# Altium schematic symbol library HassanLib.SchLib: 63 symbols
Pins are listed as number, name and electrical type; pins without a type are passive.

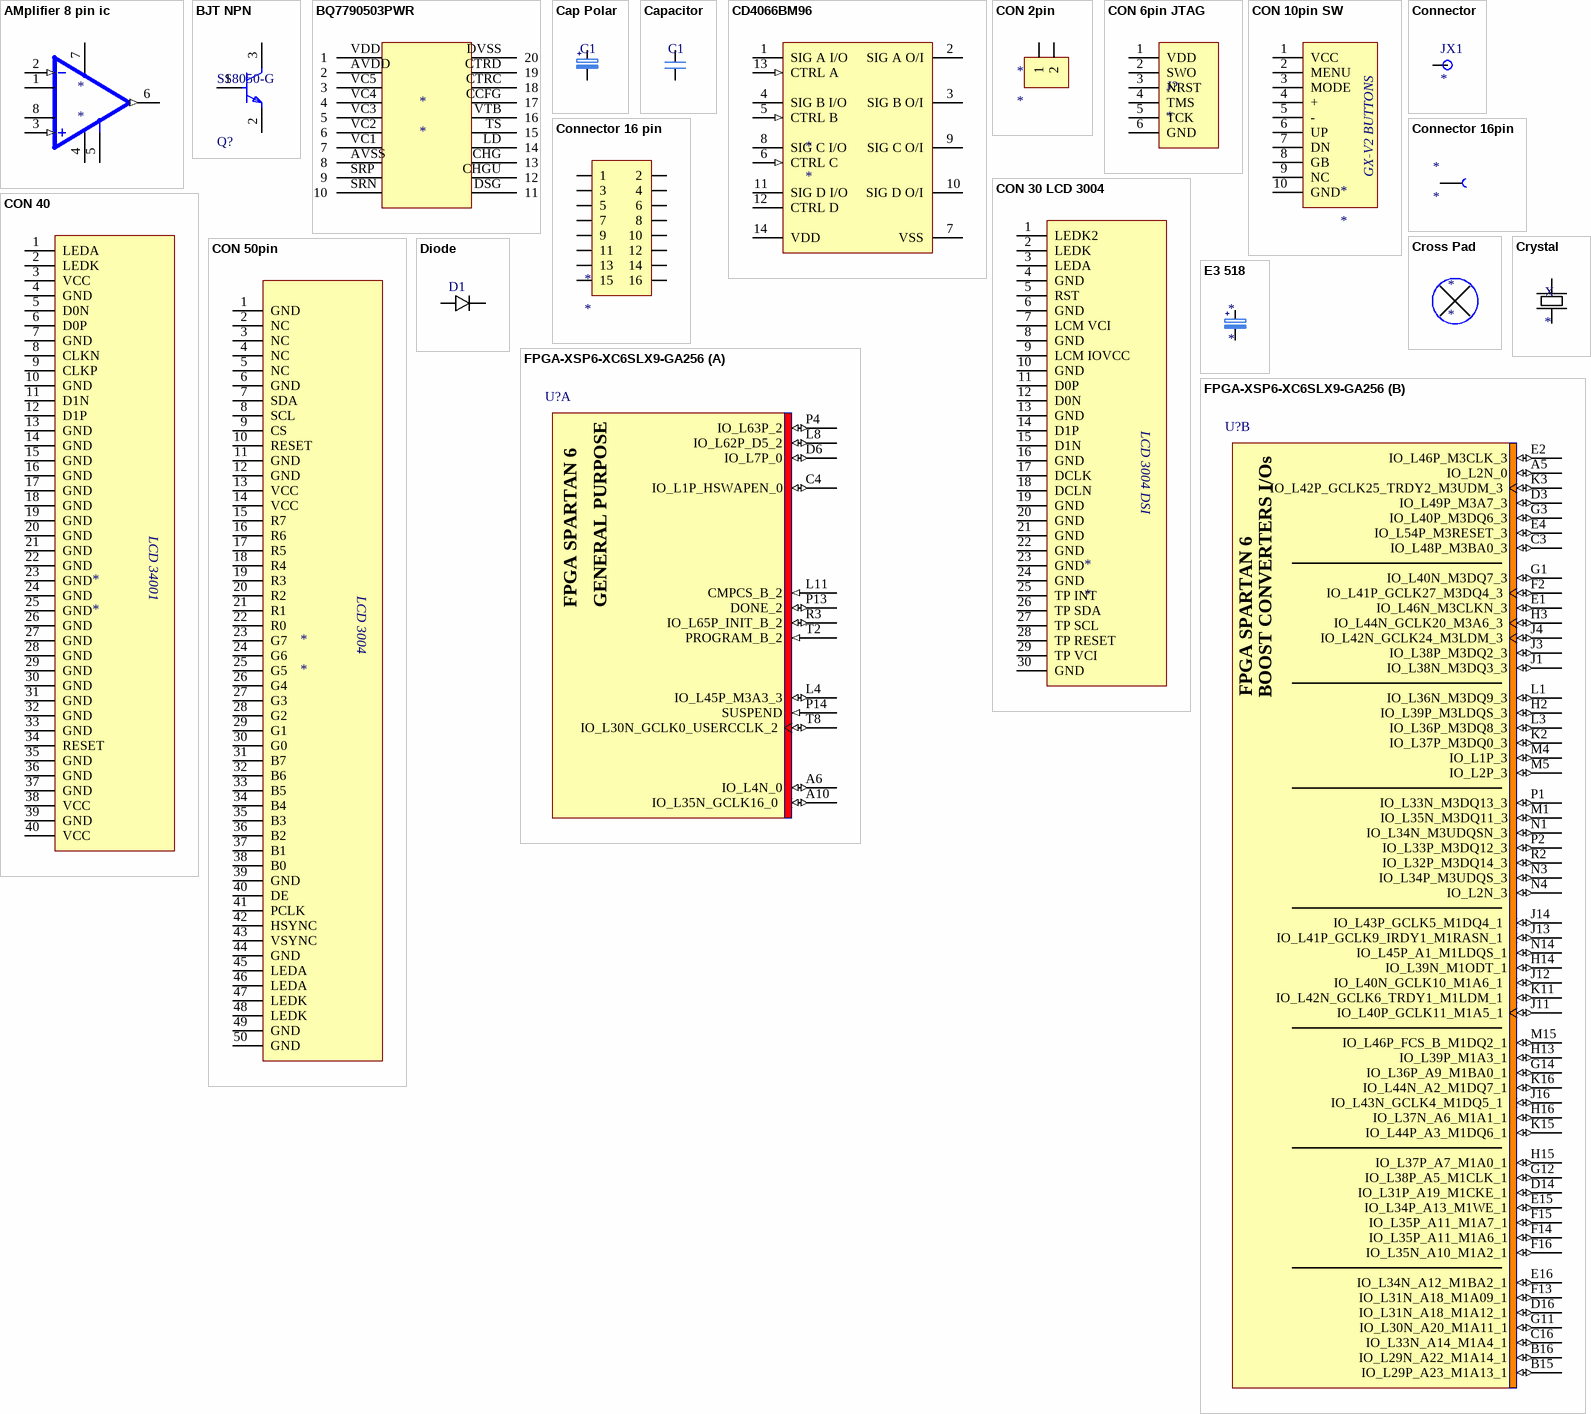
[diagram p0: symbols AMplifier 8 pin ic to FPGA-XSP6-XC6SLX9-GA256]

## AMplifier 8 pin ic
designator *
footprint Amplifier IC 8 PINS
pins: 1 RG_1, 2 -IN (in), 3 +IN (in), 4 -VS (power), 5 REF (power), 6 OUTPUT (out), 7 +VS (power), 8 RG_8

## BJT NPN
designator Q?, comment SS8050-G
NPN TRANSISTOR 1.5A 40V SOT-23 R; Transition Frequency: 100MHz; Max Breakdown Voltage: 25V; Collector Emitter Voltage (VCEO): 400mV; Max Power Dissipation: 300mW; Max Collector Current: 1.5A; Case/Package: TO-236-3; Packaging: Tape and Reel; RoHS Compliant: Yes; Mount: Surface Mount; Collector Emitter Breakdown Voltage: 25V
footprint FP-SS8050-G-IPC_B
footprint FP-SS8050-G-IPC_C
footprint FP-SS8050-G-IPC_A
footprint FP-SS8050-G-MFG
footprint SOT23 (SOT23, 3-Leads, Body 3.12x1.5mm, Pitch 0.95mm)
pins: 1 B, 2 E, 3 C

## BQ7790503PWR
designator *
footprint BQ7790503PWR
pins: AVDD 2, AVSS 8, CCFG 17, CHG 13, CHGU 12, CTRC 18, CTRD 19, DSG 11, DVSS 20, LD 14, SRN 10, SRP 9, TS 15, VC1 7, VC2 6, VC3 5, VC4 4, VC5 3, VDD 1, VTB 16

## Cap Polar
designator C1
footprint C0406 (Aluminum Electrolytic Capacitor, Diameter 4mm, Height 6.1mm, Pitch 3.6mm)
footprint C0606 (Aluminum Electrolytic Capacitor, Diameter 6.3mm, Height 6.1mm, Pitch 5.4mm)
footprint C0810 (Aluminum Electrolytic Capacitor, Diameter 8mm, Height 10.8mm, Pitch 6.5mm)
footprint C1010 (Aluminum Electrolytic Capacitor, Diameter 10mm, Height 10.8mm, Pitch 8mm)
footprint CPOL CASEC 6032 2413
footprint CPOL CASED 7343 2917
footprint CPOL CASEB 3528 1408
footprint CPOL-12.5mm36mm
footprint E3,5-18 (Rotary12)
pins: 1, 2
text: +

## Capacitor
designator C1
footprint 0603
footprint 0402 (Chip Capacitor, 2-Leads, Body 1.00x0.50mm, IPC High Density)
footprint 0805
footprint 1206 (Chip Capacitor, 2-Leads, Body 3.20x1.60mm, IPC High Density)
pins: 1, 2

## CD4066BM96
designator *
footprint CD4066BM96
pins: 1 SIG A I/O, 2 SIG A O/I, 3 SIG B O/I, 4 SIG B I/O, 5 CTRL B (in), 6 CTRL C (in), 7 VSS (power), 8 SIG C I/O, 9 SIG C O/I, 10 SIG D O/I, 11 SIG D I/O, 12 CTRL D, 13 CTRL A (in), 14 VDD (power)

## CON 2pin
designator *
footprint CON 2pin
pins: 1, 2

## CON 6pin JTAG
designator J?
footprint Header 1x06 (Pin Header, pitch 2.54 mm, THT, Vertical, single row, 6p)
pins: 1 VDD, 2 SWO, 3 NRST, 4 TMS, 5 TCK, 6 GND

## CON 10pin SW
designator *
footprint CON FPC 1mm 10p (FPC Connector, 10-Leads, Right Angle, Pitch 1.0 mm, Mated Height 3.0 mm, SMT)
pins: 1 VCC, 2 MENU, 3 MODE, 4 +, 5 -, 6 UP, 7 DN, 8 GB, 9 NC, 10 GND
text: GX-V2 BUTTONS

## CON 30 LCD 3004
designator *
footprint CON FPC 0.5mm 30p (FPC Connector, 30-Leads, Right Angle, Pitch 0.5 mm, Mated Height 2.0 mm, SMT)
pins: 1 LEDK2, 2 LEDK, 3 LEDA, 4 GND, 5 RST, 6 GND, 7 LCM VCI, 8 GND, 9 LCM IOVCC, 10 GND, 11 D0P, 12 D0N, 13 GND, 14 D1P, 15 D1N, 16 GND, 17 DCLK, 18 DCLN, 19 GND, 20 GND, 21 GND, 22 GND, 23 GND, 24 GND, 25 TP INT, 26 TP SDA, 27 TP SCL, 28 TP RESET, 29 TP VCI, 30 GND
text: LCD 3004 DSI

## CON 40
designator *
pins: 1 LEDA, 2 LEDK, 3 VCC, 4 GND, 5 D0N, 6 D0P, 7 GND, 8 CLKN, 9 CLKP, 10 GND, 11 D1N, 12 D1P, 13 GND, 14 GND, 15 GND, 16 GND, 17 GND, 18 GND, 19 GND, 20 GND, 21 GND, 22 GND, 23 GND, 24 GND, 25 GND, 26 GND, 27 GND, 28 GND, 29 GND, 30 GND, 31 GND, 32 GND, 33 GND, 34 RESET, 35 GND, 36 GND, 37 GND, 38 VCC, 39 GND, 40 VCC
text: LCD 34001

## CON 50pin
designator *
pins: 1 GND, 2 NC, 3 NC, 4 NC, 5 NC, 6 GND, 7 SDA, 8 SCL, 9 CS, 10 RESET, 11 GND, 12 GND, 13 VCC, 14 VCC, 15 R7, 16 R6, 17 R5, 18 R4, 19 R3, 20 R2, 21 R1, 22 R0, 23 G7, 24 G6, 25 G5, 26 G4, 27 G3, 28 G2, 29 G1, 30 G0, 31 B7, 32 B6, 33 B5, 34 B4, 35 B3, 36 B2, 37 B1, 38 B0, 39 GND, 40 DE, 41 PCLK, 42 HSYNC, 43 VSYNC, 44 GND, 45 LEDA, 46 LEDA, 47 LEDK, 48 LEDK, 49 GND, 50 GND
text: LCD 3004

## Connector
designator JX1
footprint PAD 1.1mm
footprint PAD 1.3mm
footprint Test point pad
pins: 2

## Connector 16 pin
designator *
pins: 2, 3, 4, 5, 6, 7, 8, 9, 10, 11, 12, 13, 14, 15, 16, 98 1

## Connector 16pin
designator *
pins: 1

## Cross Pad
designator *
footprint Cross Pad

## Crystal
designator X
footprint CRYSTAL NX3215SA
footprint CRYSTAL NX3225SA; pin to pad 1>3
footprint CRYSTAL OSCILLATOR CSM-7X-DU
footprint NX3225GB (CRYSTAL)
pins: 1 16, 2 17

## Diode
designator D1
footprint DIODE 4148
footprint DIODE SMA (Molded Diode, 2-Leads, Body 4.5x2.79mm)
footprint DIODE SMC
footprint DIODE SOD123
pins: 1 A, 2 K

## E3 518
designator *
footprint E3,5-18 (Rotary12)
pins: 1, 2
text: +

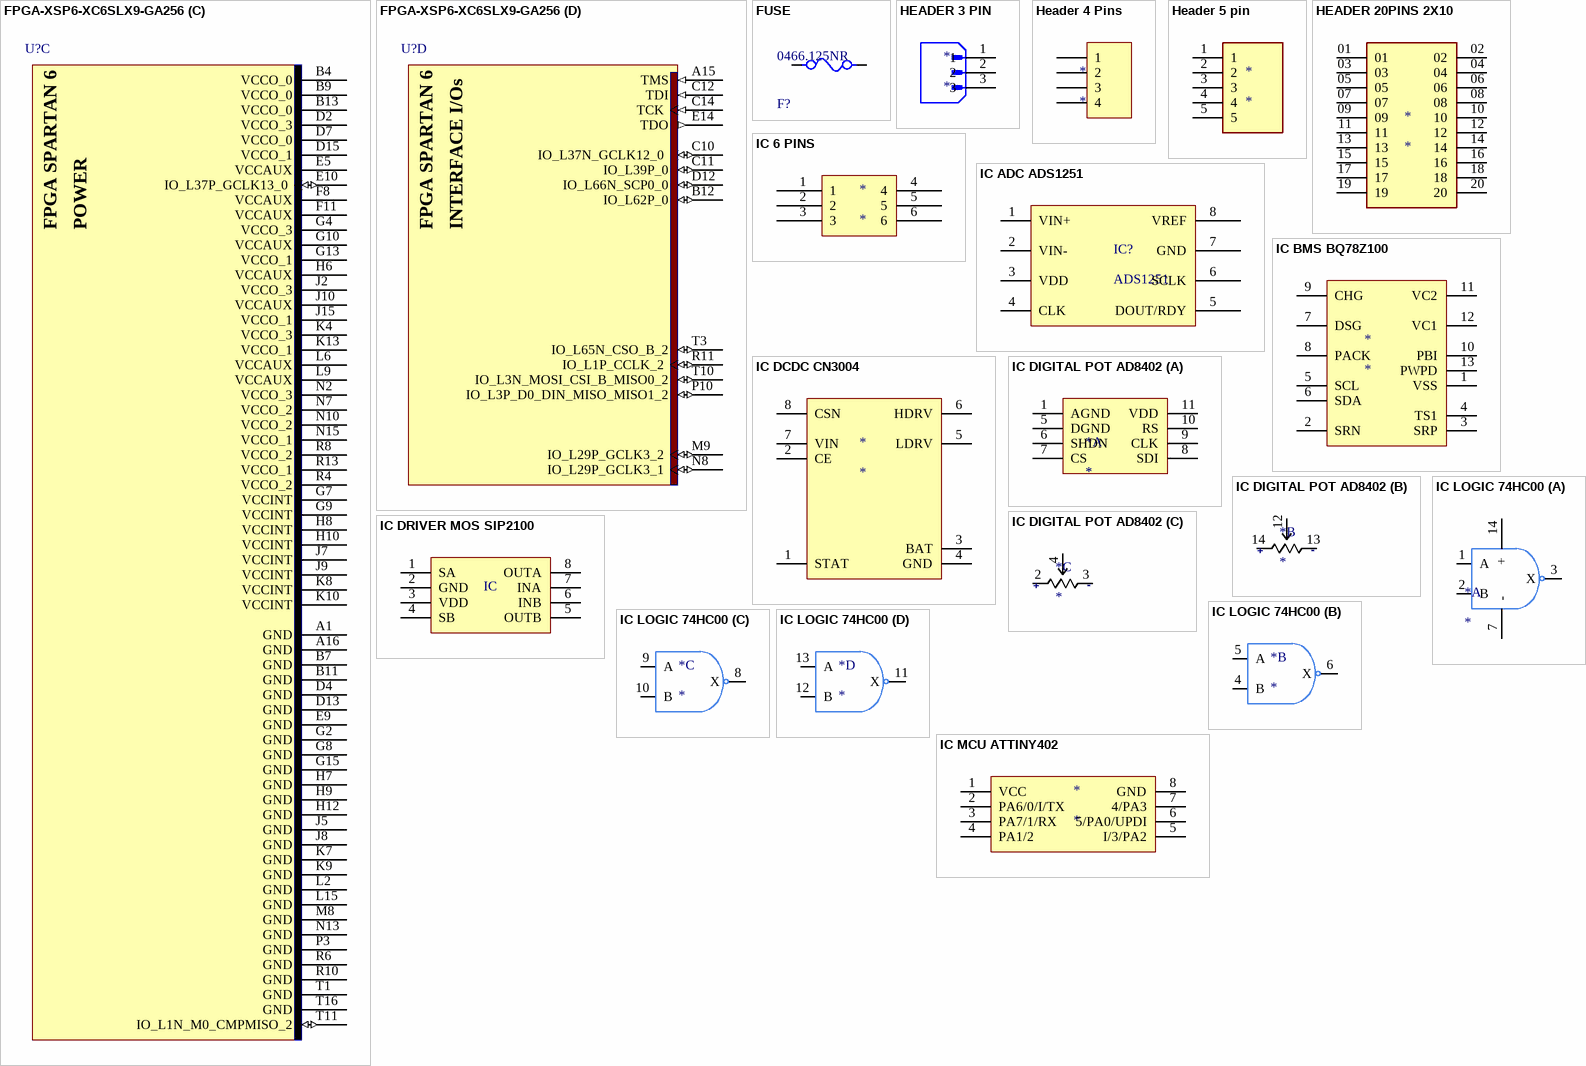
[diagram p1: symbols FPGA-XSP6-XC6SLX9-GA256 to IC MCU ATTINY402]

## FPGA-XSP6-XC6SLX9-GA256
designator U?
part A pins: A6 IO_L4N_0 (io), A10 IO_L35N_GCLK16_0 (io), C4 IO_L1P_HSWAPEN_0 (io), D6 IO_L7P_0 (io), L4 IO_L45P_M3A3_3 (io), L8 IO_L62P_D5_2 (io), L11 CMPCS_B_2 (in), P4 IO_L63P_2 (io), P13 DONE_2 (io), P14 SUSPEND (in), R3 IO_L65P_INIT_B_2 (io), T2 PROGRAM_B_2 (in), T8 IO_L30N_GCLK0_USERCCLK_2 (io)
part B pins: A5 IO_L2N_0 (io), B15 IO_L29P_A23_M1A13_1 (io), B16 IO_L29N_A22_M1A14_1 (io), C3 IO_L48P_M3BA0_3 (io), C16 IO_L33N_A14_M1A4_1 (io), D3 IO_L49P_M3A7_3 (io), D14 IO_L31P_A19_M1CKE_1 (io), D16 IO_L31N_A18_M1A12_1 (io), E1 IO_L46N_M3CLKN_3 (io), E2 IO_L46P_M3CLK_3 (io), E4 IO_L54P_M3RESET_3 (io), E15 IO_L34P_A13_M1WE_1 (io), E16 IO_L34N_A12_M1BA2_1 (io), F2 IO_L41P_GCLK27_M3DQ4_3 (io), F13 IO_L31N_A18_M1A09_1 (io), F14 IO_L35P_A11_M1A6_1 (io), F15 IO_L35P_A11_M1A7_1 (io), F16 IO_L35N_A10_M1A2_1 (io), G1 IO_L40N_M3DQ7_3 (io), G3 IO_L40P_M3DQ6_3 (io), G11 IO_L30N_A20_M1A11_1 (io), G12 IO_L38P_A5_M1CLK_1 (io), G14 IO_L36P_A9_M1BA0_1 (io), H2 IO_L39P_M3LDQS_3 (io), H3 IO_L44N_GCLK20_M3A6_3 (io), H13 IO_L39P_M1A3_1 (io), H14 IO_L39N_M1ODT_1 (io), H15 IO_L37P_A7_M1A0_1 (io), H16 IO_L37N_A6_M1A1_1 (io), J1 IO_L38N_M3DQ3_3 (io), J3 IO_L38P_M3DQ2_3 (io), J4 IO_L42N_GCLK24_M3LDM_3 (io), J11 IO_L40P_GCLK11_M1A5_1 (io), J12 IO_L40N_GCLK10_M1A6_1 (io), J13 IO_L41P_GCLK9_IRDY1_M1RASN_1 (io), J14 IO_L43P_GCLK5_M1DQ4_1 (io), J16 IO_L43N_GCLK4_M1DQ5_1 (io), K2 IO_L37P_M3DQ0_3 (io), K3 IO_L42P_GCLK25_TRDY2_M3UDM_3 (io), K11 IO_L42N_GCLK6_TRDY1_M1LDM_1 (io), K15 IO_L44P_A3_M1DQ6_1 (io), K16 IO_L44N_A2_M1DQ7_1 (io), L1 IO_L36N_M3DQ9_3 (io), L3 IO_L36P_M3DQ8_3 (io), M1 IO_L35N_M3DQ11_3 (io), M4 IO_L1P_3 (io), M5 IO_L2P_3 (io), M15 IO_L46P_FCS_B_M1DQ2_1 (io), N1 IO_L34N_M3UDQSN_3 (io), N3 IO_L34P_M3UDQS_3 (io), N4 IO_L2N_3 (io), N14 IO_L45P_A1_M1LDQS_1 (io), P1 IO_L33N_M3DQ13_3 (io), P2 IO_L33P_M3DQ12_3 (io), R2 IO_L32P_M3DQ14_3 (io)
part C pins: A1 GND (power), A16 GND (power), B4 VCCO_0 (power), B7 GND (power), B9 VCCO_0 (power), B11 GND (power), B13 VCCO_0 (power), D2 VCCO_3 (power), D4 GND (power), D7 VCCO_0 (power), D13 GND (power), D15 VCCO_1 (power), E5 VCCAUX (power), E9 GND (power), E10 IO_L37P_GCLK13_0 (io), F8 VCCAUX (power), F11 VCCAUX (power), G2 GND (power), G4 VCCO_3 (power), G7 VCCINT (power), G8 GND (power), G9 VCCINT (power), G10 VCCAUX (power), G13 VCCO_1 (power), G15 GND (power), H6 VCCAUX (power), H7 GND (power), H8 VCCINT (power), H9 GND (power), H10 VCCINT (power), H12 GND (power), J2 VCCO_3 (power), J5 GND (power), J7 VCCINT (power), J8 GND (power), J9 VCCINT (power), J10 VCCAUX (power), J15 VCCO_1 (power), K4 VCCO_3 (power), K7 GND (power), K8 VCCINT (power), K9 GND (power), K10 VCCINT (power), K13 VCCO_1 (power), L2 GND (power), L6 VCCAUX (power), L9 VCCAUX (power), L15 GND (power), M8 GND (power), N2 VCCO_3 (power), N7 VCCO_2 (power), N10 VCCO_2 (power), N13 GND (power), N15 VCCO_1 (power), P3 GND (power), R4 VCCO_2 (power), R6 GND (power), R8 VCCO_2 (power), R10 GND (power), R13 VCCO_1 (power), T1 GND (power), T11 IO_L1N_M0_CMPMISO_2 (io), T16 GND (power)
part D pins: A15 TMS (in), B12 IO_L62P_0 (io), C10 IO_L37N_GCLK12_0 (io), C11 IO_L39P_0 (io), C12 TDI (in), C14 TCK (in), D12 IO_L66N_SCP0_0 (io), E14 TDO (out), M9 IO_L29P_GCLK3_2 (io), N8 IO_L29P_GCLK3_1 (io), P10 IO_L3P_D0_DIN_MISO_MISO1_2 (io), R11 IO_L1P_CCLK_2 (io), T3 IO_L65N_CSO_B_2 (io), T10 IO_L3N_MOSI_CSI_B_MISO0_2 (io)
part A text: FPGA SPARTAN 6; GENERAL PURPOSE
part B text: FPGA SPARTAN 6; BOOST CONVERTERS I/Os
part C text: FPGA SPARTAN 6; POWER
part D text: FPGA SPARTAN 6; INTERFACE I/Os

## FUSE
designator F?, comment 0466.125NR
FUSE BOARD MNT 125MA 125VAC/VDC; ComponentLink2URL: https://www.littelfuse.com/~/media/electronics/datasheets/fuses/littelfuse_fuse_466_datasheet.pdf.pdf; ComponentLink2Description: Datasheet
footprint 1206 (Chip Capacitor, 2-Leads, Body 3.20x1.60mm, IPC High Density)
pins: 1, 2

## HEADER 3 PIN
designator *
footprint HEADER 3 PIN (B3B-XH-A(LF)(SN))
pins: 1, 2, 3

## Header 4 Pins
designator *
footprint Header 4 pins
pins: 1, 2, 3, 4

## Header 5 pin
designator *
footprint Header 5 pin
pins: 1, 2, 3, 4, 5

## HEADER 20PINS 2X10
designator *
footprint HEADER 20PINS
pins: 01, 02, 03, 04, 05, 06, 07, 08, 09, 10, 11, 12, 13, 14, 15, 16, 17, 18, 19, 20

## IC 6 PINS
designator *
footprint Pressure_sensor
pins: 1, 2, 3, 4, 5, 6

## IC ADC ADS1251
designator IC?, comment ADS1251
footprint SOIC8
pins: 1 VIN+, 2 VIN-, 3 VDD, 4 CLK, 5 DOUT/RDY, 6 SCLK, 7 GND, 8 VREF

## IC BMS BQ78Z100
designator *
footprint VSON12 (SON, 12-Leads, Body 4x2.5mm, Pitch 0.4mm, Thermal Pad 1.95x2.45mm, TI Recommended)
pins: 1 VSS, 2 SRN, 3 SRP, 4 TS1, 5 SCL, 6 SDA, 7 DSG, 8 PACK, 9 CHG, 10 PBI, 11 VC2, 12 VC1, 13 PWPD

## IC DCDC CN3004
designator *
footprint SOIC8
pins: 1 STAT, 2 CE, 3 BAT, 4 GND, 5 LDRV, 6 HDRV, 7 VIN, 8 CSN

## IC DIGITAL POT AD8402
designator *
footprint SOIC14 (SOIC, 14-Leads, Body 8.75x4mm, Pitch 1.27mm, IPC Medium Density)
part A pins: 1 AGND, 5 DGND, 6 SHDN, 7 CS, 8 SDI, 9 CLK, 10 RS, 11 VDD
part B pins: 12 2, 13 0, 14 1
part C pins: 2 1, 3 0, 4 2
part B text: +; -
part C text: +; -

## IC DRIVER MOS SIP2100
designator IC  (value not drawn)
footprint SOIC8
pins: 1 SA, 2 GND, 3 VDD, 4 SB, 5 OUTB, 6 INB, 7 INA, 8 OUTA

## IC LOGIC 74HC00
designator *
footprint SOIC14 (SOIC, 14-Leads, Body 8.75x4mm, Pitch 1.27mm, IPC Medium Density)
part A pins: 1 A, 2 B, 3 X, 7 -, 14 +
part B pins: 4 B, 5 A, 6 X
part C pins: 8 X, 9 A, 10 B
part D pins: 11 X, 12 B, 13 A

## IC MCU ATTINY402
designator *
footprint SOIC8
pins: 1 VCC, 2 PA6/0/I/TX, 3 PA7/1/RX, 4 PA1/2, 5 I/3/PA2, 6 5/PA0/UPDI, 7 4/PA3, 8 GND

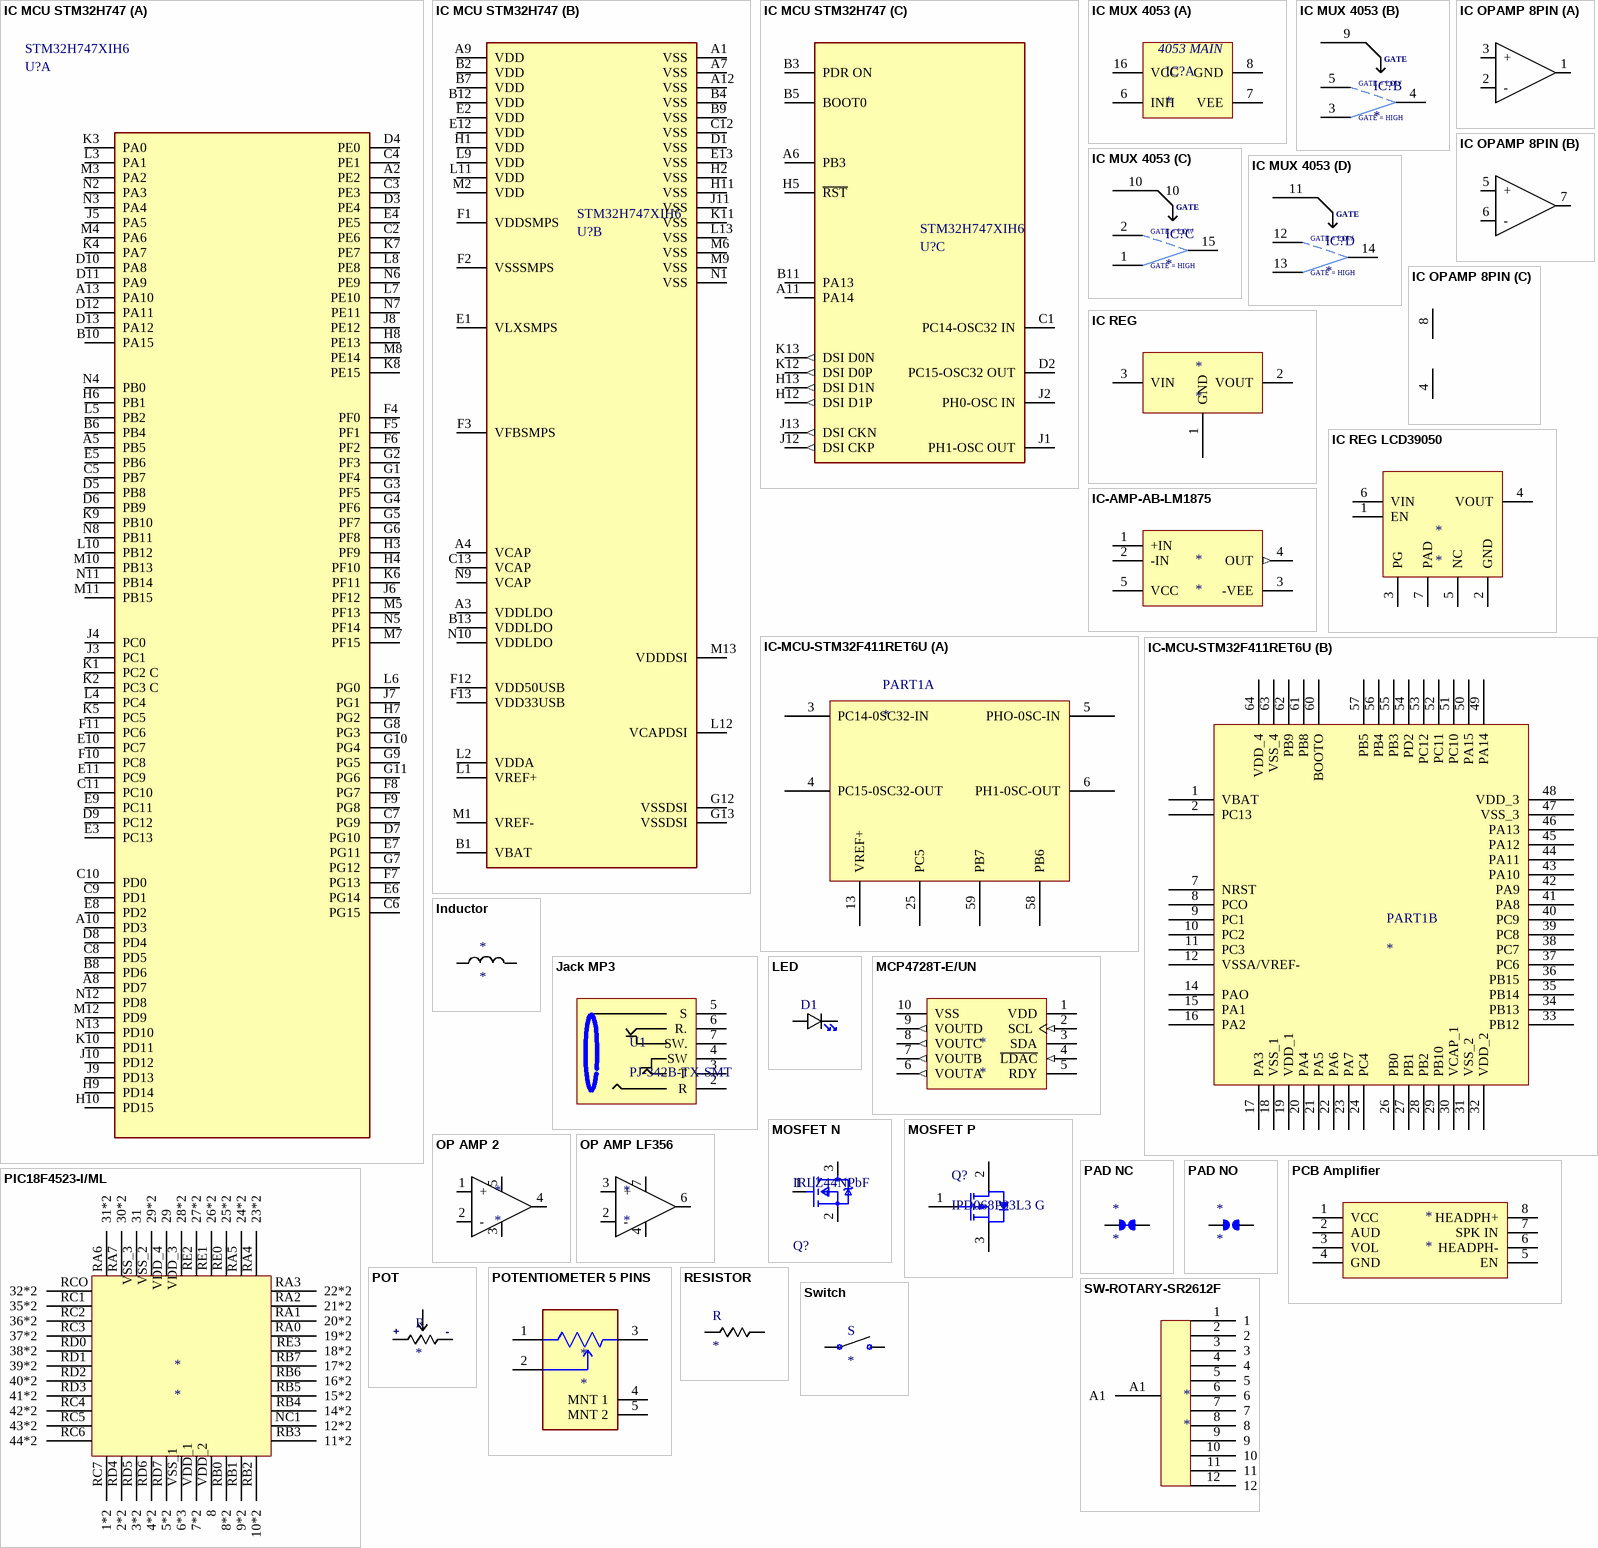
[diagram p2: symbols IC MCU STM32H747 to Switch]

## IC MCU STM32H747
designator U?, comment STM32H747XIH6
HIGH-PERFORMANCE AND DSP WITH DP; Manufacturer: STMicroelectronics; Number Of Uart Channels: 9; Number Of Pwm Channels: 2; Memory Size: 2MBytes; Number Of Ethernet Channels: 1; Ram Size: 1MBytes; Number Of Timers/Counters: 22; Data Bus Width: 32bits; Core Architecture: ARM Cortex-M4, ARM Cortex-M7; Interface: I2C,SPI,UART,USART,CAN,USB,LIN,IrDA,Ethernet,I2S,SMBus,Other; Number Of Adc Channels: 36; Min Supply Voltage: 1.2V; Number Of A/D Converters: 3; Number Of Spi Channels: 6; Max Supply Voltage: 3.6V; Frequency: 480MHz; Memory Type: FLASH; Number Of I2C Channels: 4; Max Junction Temp: +125°C; Standoff Height: 0.15mm; Number Of I/Os: 168; Device Class L2: Embedded Processors and Controllers; Digikey Description: HIGH-PERFORMANCE AND DSP WITH DP; RoHS: TRUE; Lead Free: Yes; Manufacturer Part Number: STM32H747XIH6; ComponentLink2URL: https://www.st.com/resource/en/datasheet/stm32h747xi.pdf; Mouser Description: STM32 Series 2 MB Flash 1 MB RAM 480 MHz 32-Bit Microcontroller - TFBGA-265; Device Class L1: Integrated Circuits (ICs); Ipc Land Pattern Name: BGA289N80P17X17_1400X1400X110; Category: IC; Device Class L3: Microcontrollers; Ambient Temperature Range High: +85°C; Number Of Cores: 2; Temperature Range High: +125°C; ComponentLink2Description: Datasheet; Automotive: No; Ambient Temperature Range Low: -40°C; Package: TFBGA240+25-A07U; Temperature: -40°C to +125°C; Number Of Usb Channels: 2; Temperature Range Low: -40°C; Height: 1.1mm; Octopart: https://octopart.com/stm32h747xih6-stmicroelectronics-100293943
footprint UFBGA169 (BGA, 169-Leads, Body 7.00x7.00mm, Pitch 0.50mm)
part A pins: A2 PE2, A5 PB5, A8 PD7, A10 PD3, A13 PA10, B6 PB4, B8 PD6, B10 PA15, C2 PE6, C3 PE3, C4 PE1, C5 PB7, C6 PG15, C7 PG9, C8 PD5, C9 PD1, C10 PD0, C11 PC10, D3 PE4, D4 PE0, D5 PB8, D6 PB9, D7 PG10, D8 PD4, D9 PC12, D10 PA8, D11 PA9, D12 PA11, D13 PA12, E3 PC13, E4 PE5, E5 PB6, E6 PG14, E7 PG11, E8 PD2, E9 PC11, E10 PC7, E11 PC9, F4 PF0, F5 PF1, F6 PF2, F7 PG13, F8 PG7, F9 PG8, F10 PC8, F11 PC6, G1 PF4, G2 PF3, G3 PF5, G4 PF6, G5 PF7, G6 PF8, G7 PG12, G8 PG3, G9 PG5, G10 PG4, G11 PG6, H3 PF9, H4 PF10, H6 PB1, H7 PG2, H8 PE13, H9 PD14, H10 PD15, J3 PC1, J4 PC0, J5 PA5, J6 PF12, J7 PG1, J8 PE12, J9 PD13, J10 PD12, K1 PC2 C, K2 PC3 C, K3 PA0, K4 PA7, K5 PC5, K6 PF11, K7 PE7, K8 PE15, K9 PB10, K10 PD11, L3 PA1, L4 PC4, L5 PB2, L6 PG0, L7 PE10, L8 PE8, L10 PB12, M3 PA2, M4 PA6, M5 PF13, M7 PF15, M8 PE14, M10 PB13, M11 PB15, M12 PD9, N2 PA3, N3 PA4, N4 PB0, N5 PF14, N6 PE9, N7 PE11, N8 PB11, N11 PB14, N12 PD8, N13 PD10
part B pins: A1 VSS (power), A3 VDDLDO (power), A4 VCAP (power), A7 VSS (power), A9 VDD (power), A12 VSS (power), B1 VBAT (power), B2 VDD (power), B4 VSS (power), B7 VDD (power), B9 VSS (power), B12 VDD (power), B13 VDDLDO (power), C12 VSS (power), C13 VCAP (power), D1 VSS (power), E1 VLXSMPS (power), E2 VDD (power), E12 VDD (power), E13 VSS (power), F1 VDDSMPS (power), F2 VSSSMPS (power), F3 VFBSMPS (power), F12 VDD50USB (power), F13 VDD33USB (power), G12 VSSDSI (power), G13 VSSDSI (power), H1 VDD (power), H2 VSS (power), H11 VSS (power), J11 VSS (power), K11 VSS (power), L1 VREF+ (power), L2 VDDA (power), L9 VDD (power), L11 VDD (power), L12 VCAPDSI (power), L13 VSS (power), M1 VREF- (power), M2 VDD (power), M6 VSS (power), M9 VSS (power), M13 VDDDSI (power), N1 VSS (power), N9 VCAP (power), N10 VDDLDO (power)
part C pins: A6 PB3, A11 PA14, B3 PDR ON, B5 BOOT0, B11 PA13, C1 PC14-OSC32 IN, D2 PC15-OSC32 OUT, H5 ~{RST}, H12 DSI D1P (out), H13 DSI D1N (out), J1 PH1-OSC OUT, J2 PH0-OSC IN, J12 DSI CKP (out), J13 DSI CKN (out), K12 DSI D0P (out), K13 DSI D0N (out)

## IC MUX 4053
designator IC?
footprint SOIC16
part A pins: 6 INH, 7 VEE, 8 GND, 16 VCC
part B pins: 3 16, 4 17, 5, 9
part C pins: 1 16, 2, 10, 15 17
part D pins: 11, 12, 13 16, 14 17
part A text: 4053 MAIN
part B text: GATE; GATE = LOW; GATE = HIGH
part C text: GATE; GATE = LOW; GATE = HIGH
part D text: GATE; GATE = LOW; GATE = HIGH

## IC OPAMP 8PIN
designator IC1  (value not drawn)
footprint SOIC8
part A pins: 1, 2 -, 3 +
part B pins: 5 +, 6 -, 7
part C pins: 4, 8

## IC REG
designator *
footprint TO263 DDPAK
footprint SOT89
footprint TO252 DPAK
footprint TO220
footprint SOT23-5 (SOT23, 6-Leads, Body 3.05x1.75mm, Pitch 0.95mm); pin to pad 3>2
pins: 1 GND, 2 VOUT, 3 VIN

## IC REG LCD39050
designator *
footprint DFN6 3x3 (SON, 6-Leads, Body 3x3mm, Pitch 0.95mm, Thermal Pad 2.4x1.65mm, IPC Medium Density)
pins: 1 EN, 2 GND, 3 PG, 4 VOUT, 5 NC, 6 VIN, 7 PAD

## IC-AMP-AB-LM1875
designator *
footprint LM1875T/LB03
pins: 1 +IN, 2 -IN, 3 -VEE (power), 4 OUT (out), 5 VCC (power)

## IC-MCU-STM32F411RET6U
designator PART1
footprint QFP50P1200X1200X160-64N
part A pins: 3 PC14-0SC32-IN, 4 PC15-0SC32-OUT, 5 PHO-0SC-IN, 6 PH1-0SC-OUT, 13 VREF+, 25 PC5, 58 PB6, 59 PB7
part B pins: 1 VBAT, 2 PC13, 7 NRST, 8 PCO, 9 PC1, 10 PC2, 11 PC3, 12 VSSA/VREF-, 14 PAO, 15 PA1, 16 PA2, 17 PA3, 18 VSS_1, 19 VDD_1, 20 PA4, 21 PA5, 22 PA6, 23 PA7, 24 PC4, 26 PB0, 27 PB1, 28 PB2, 29 PB10, 30 VCAP_1, 31 VSS_2, 32 VDD_2, 33 PB12, 34 PB13, 35 PB14, 36 PB15, 37 PC6, 38 PC7, 39 PC8, 40 PC9, 41 PA8, 42 PA9, 43 PA10, 44 PA11, 45 PA12, 46 PA13, 47 VSS_3, 48 VDD_3, 49 PA14, 50 PA15, 51 PC10, 52 PC11, 53 PC12, 54 PD2, 55 PB3, 56 PB4, 57 PB5, 60 BOOTO, 61 PB8, 62 PB9, 63 VSS_4, 64 VDD_4

## Inductor
designator *
footprint 1206 (Chip Capacitor, 2-Leads, Body 3.20x1.60mm, IPC High Density)
footprint L 6.6x7.2mm
pins: 1, 2

## Jack MP3
designator U1, comment PJ-342B-TX-SMT
From XKB C388632
footprint Audio Jack PJ-342B-TX-SMT
pins: 2 R, 3 T, 4 SW, 5 S, 6 R., 7 SW.

## LED
designator D1
footprint DIODE 4148
footprint DIODE SMA (Molded Diode, 2-Leads, Body 4.5x2.79mm)
footprint DIODE SMC
footprint DIODE SOD123
footprint D 0805
footprint D 0603
footprint LED3MM
pins: 1 K, 2 A

## MCP4728T-E/UN
designator *
footprint SOP50P490X110-10N (IC-DAC-MCP4728)
pins: 1 VDD (power), 2 SCL (in), 3 SDA, 4 ~{LDAC} (in), 5 RDY (oc), 6 VOUTA (out), 7 VOUTB (out), 8 VOUTC (out), 9 VOUTD (out), 10 VSS (power)

## MOSFET N
designator Q?, comment IRLZ44NPbF
MOSFET N-CH 55V 47A TO220AB
footprint TO252 DPAK
footprint SOT23 (SOT23, 3-Leads, Body 3.12x1.5mm, Pitch 0.95mm)
pins: 1 G, 2 S, 3 D

## MOSFET P
designator Q?, comment IPD068P03L3 G
P-Channel OptiMOS P3 Power-Transistor, -30 V VDS, -70 A ID, -55 to 175 degC, PG-TO252-3-1, Reel, Green; Manufacturer: Infineon; VDS (max): -30Â V; ID (max): -70Â A; RDS (on) (max): 6.8Â mOhm; Green: TRUE; IDpuls (max): -280Â A; VGS(th) (min): -1Â V; VGS(th) (max): -2Â V; Pto t (max): 100Â W; QG: 68Â nC; RDS (on) (max) (@4.5V): 11Â mOhm; RthJC (max): 1.5 K/W; Rth: 1.5Â K/W; ComponentLink2URL: http://www.infineon.com/dgdl/IPD068P03L3+G_2+0.pdf?folderId=db3a304314dca38901154a7313d21a66&fileId=db3a30432313ff5e01232cc234f07d94; PackageReference: PG-TO252-3-1; ComponentLink3URL: http://www.infineon.com/dgdl/TLE42744_DS_11.pdf?folderId=db3a304318f3fe290118f5a433570040&fileId=db3a304327b897500128012ccafe37d2&sId=db3a30443d67b5ca013d83f7c0ea327b; Packing: Reel; PackageDescription: 3-Pin Plastic (Green) Transistor Single Outline Package, 6.5 x 6.12 mm Body, 2.28 mm Pitch; ComponentLink3Description: Package Specification; DatasheetVersion: Rev. 2.0; ComponentLink1Description: Manufacturer URL; ComponentLink2Description: Datasheet; PackageVersion: Jan-10; Mounting Technology: Surface Mount; ComponentLink1URL: http://www.infineon.com/; PartNumber: IPD068P03L3 G
footprint INF-PG-TO252-3-1_M (DPAK, 3-Leads, Body 6.525x6.12mm, Pitch 2.28mm, IPC Low Density)
footprint INF-PG-TO252-3-1_L (DPAK, 3-Leads, Body 6.525x6.12mm, Pitch 2.28mm, IPC High Density)
footprint INF-PG-TO252-3-1_N (DPAK, 3-Leads, Body 6.525x6.12mm, Pitch 2.28mm, IPC Medium Density)
footprint TO252 DPAK; pin to pad 2>4
pins: 1 GATE, 2 DRAIN, 3 SOURCE

## OP AMP 2
designator *
footprint LM1875T/LB03
pins: 1 +, 2 -, 3, 4, 5

## OP AMP LF356
designator *
footprint SOIC8
pins: 2 -, 3 +, 4, 6, 7

## PAD NC
designator *
footprint JUMPER NC
pins: 1, 2

## PAD NO
designator *
footprint JUMPER NO
pins: 1, 2

## PCB Amplifier
designator *
footprint Module Amplifier V1
pins: 1 VCC, 2 AUD, 3 VOL, 4 GND, 5 EN, 6 HEADPH-, 7 SPK IN, 8 HEADPH+

## PIC18F4523-I/ML
designator *
footprint PIC18F4523
footprint PIC18F4523
pins: NC1 12*2, RA0 19*2, RA1 20*2, RA2 21*2, RA3 22*2, RA4 23*2, RA5 24*2, RA6 31*2, RA7 30*2, RB0 8*2, RB1 9*2, RB2 10*2, RB3 11*2, RB4 14*2, RB5 15*2, RB6 16*2, RB7 17*2, RC1 35*2, RC2 36*2, RC3 37*2, RC4 42*2, RC5 43*2, RC6 44*2, RC7 1*2, RCO 32*2, RD0 38*2, RD1 39*2, RD2 40*2, RD3 41*2, RD4 2*2, RD5 3*2, RD6 4*2, RD7 5*2, RE0 25*2, RE1 26*2, RE2 27*2, RE3 18*2, VDD_1 7*2, VDD_2 8, VDD_3 28*2, VDD_4 29, VSS_1 6*3, VSS_2 29*2, VSS_3 31

## POT
designator R
footprint POT HG FLAT
pins: 0, 1, 2
text: +; -

## POTENTIOMETER 5 PINS
designator *
footprint POTENTIOMETER
pins: 1, 2, 3, 4 MNT 1, 5 MNT 2

## RESISTOR
designator R
footprint 0402 (Chip Capacitor, 2-Leads, Body 1.00x0.50mm, IPC High Density)
footprint 0603
footprint 0805
footprint 1206 (Chip Capacitor, 2-Leads, Body 3.20x1.60mm, IPC High Density)
footprint R2502
footprint R1210
footprint 2512
pins: 1, 2

## SW-ROTARY-SR2612F
designator *
footprint ROTATORY SWITCH
pins: 1, 2, 3, 4, 5, 6, 7, 8, 9, 10, 11, 12, A1

## Switch
designator S
footprint SWITCH 6X3.5MM
pins: 1 13, 2 14

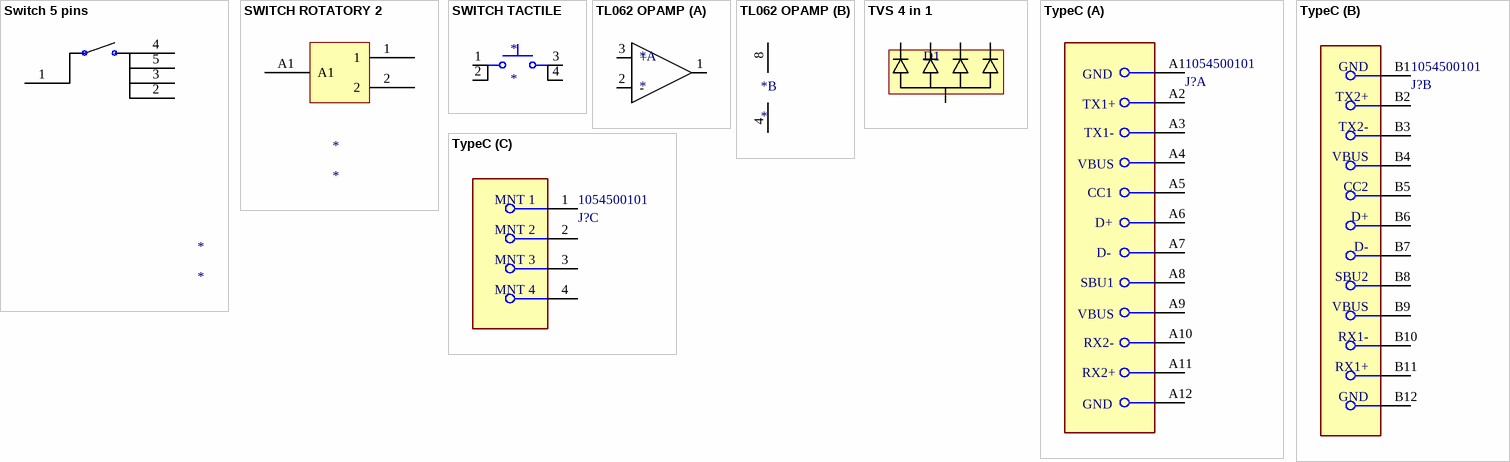
[diagram p3: symbols Switch 5 pins to TypeC]

## Switch 5 pins
designator *
footprint SW 5 PINS
pins: 1 16, 2 18, 3 19, 4 16, 5 17, 13, 14

## SWITCH ROTATORY 2
designator *
footprint ROTATORY SWITCH
pins: 1, 2, A1

## SWITCH TACTILE
designator *
footprint SWITCH TACTILE
pins: 1, 2, 3, 4

## TL062 OPAMP
designator *
footprint SOIC8
part A pins: 1, 2 -, 3 +
part B pins: 4, 8

## TVS 4 in 1
designator D1
footprint SOT23-6 (SOT23, 6-Leads, Body 3.05x1.75mm, Pitch 0.95mm)
pins: 1 3, 2 4, 3, 4 3, 6 3

## TypeC
designator J?, comment 1054500101
CONN RCP USB3.1 TYPEC 24P SMD RA; Manufacturer: Molex; Number Of Contacts: 24; Voltage Rating: 30V; Shielding: true; Is Female: yes; Current Rating: 0.25/1.25/5A; Pitch: 0.5mm; Conn Orientation: Right Angle; Package: 0; Height: 3.44mm; Footprint Url: https://www.molex.com/pdm_docs/sd/1054500101_sd.pdf; Device Class L1: Connectors; Category: Conn; Device Class L2: USB Connectors; Digikey Description: CONN RCP USB3.1 TYPEC 24P SMD RA; Contact Material: Gold,Nickel; Mouser Description: USB Shielded I/O Receptacle; Type C; Right Angle; Surface Mount; Gold over Nickel; ComponentLink2Description: Datasheet; Lead Free: Yes; Automotive: No; Temperature Range High: +85°C; RoHS: TRUE; Octopart: https://octopart.com/105450-0101-molex-68082325; ComponentLink2URL: https://www.molex.com/webdocs/datasheets/pdf/en-us/1054500101_IO_CONNECTORS.pdf; Temperature: -30°C to +85°C; Usb Standard: USB 3.1; Temperature Range Low: -30°C; Device Class L3: unset; Manufacturer Part Number: 1054500101
footprint FP-1054500101-MFG
footprint TypeC (C134092 1054500101 Molex)
footprint TYPE CC
part A pins: A1 GND, A2 TX1+, A3 TX1-, A4 VBUS, A5 CC1, A6 D+, A7 D-, A8 SBU1, A9 VBUS, A10 RX2-, A11 RX2+, A12 GND
part B pins: B1 GND, B2 TX2+, B3 TX2-, B4 VBUS, B5 CC2, B6 D+, B7 D-, B8 SBU2, B9 VBUS, B10 RX1-, B11 RX1+, B12 GND
part C pins: 1 MNT 1, 2 MNT 2, 3 MNT 3, 4 MNT 4